# EAGLE library part MOLEX_3.96MM_6P (library mylib)
A 6 pin molex connector with raster 3.96mm
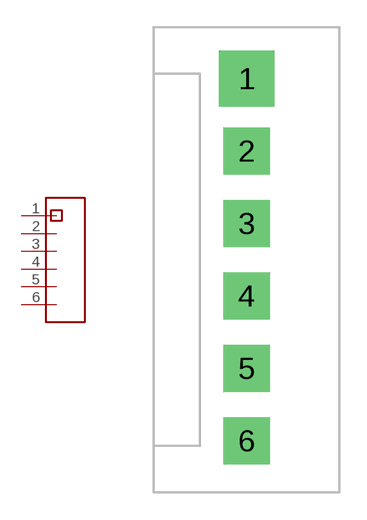
[diagram p1: symbol with the pads of MOLEX_3.96MM_6P; footprint MOLEX_3.96MM_6P]

Designator prefix -

## MOLEX_3.96MM_6P  [MOLEX_3.96MM_6P]
1  1
2  2
3  3
4  4
5  5
6  6

## Footprint MOLEX_3.96MM_6P (pad centres in mm)
drill 1.7 pad 3.048 square: 1 0,9.9
drill 1.7 pad 2.54 square: 2 0,5.94; 3 0,1.98; 4 0,-1.98; 5 0,-5.94; 6 0,-9.9